# EAGLE library part MCP662 (library custom)
Op-Amp Dual Rail-to-Rail 60MHz 32V/us 6pA 1.8mV 6mA 2.5-5.5V
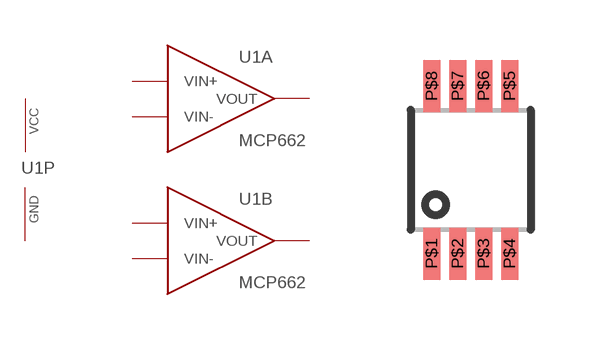
[diagram p68: symbol with the pads of 8-MSOP; footprint 8-MSOP]

Designator prefix U1; gates A=OP-AMP B=OP-AMP P=PWRN

## MCP662  [8-MSOP]
P$1  A:VOUT
P$2  A:VIN-
P$3  A:VIN+
P$4  P:GND  pwr
P$5  B:VIN+
P$6  B:VIN-
P$7  B:VOUT
P$8  P:VCC  pwr

## Footprint 8-MSOP (pad centres in mm)
smd 0.425 x 1.3: P$1 -0.975,-2.1; P$2 -0.325,-2.1; P$3 0.325,-2.1; P$4 0.975,-2.1; P$5 0.975,2.1; P$6 0.325,2.1; P$7 -0.325,2.1; P$8 -0.975,2.1